# Altium schematic symbol library usb2ttl.SchLib: 9 symbols
Pins are listed as number, name and electrical type; pins without a type are passive.

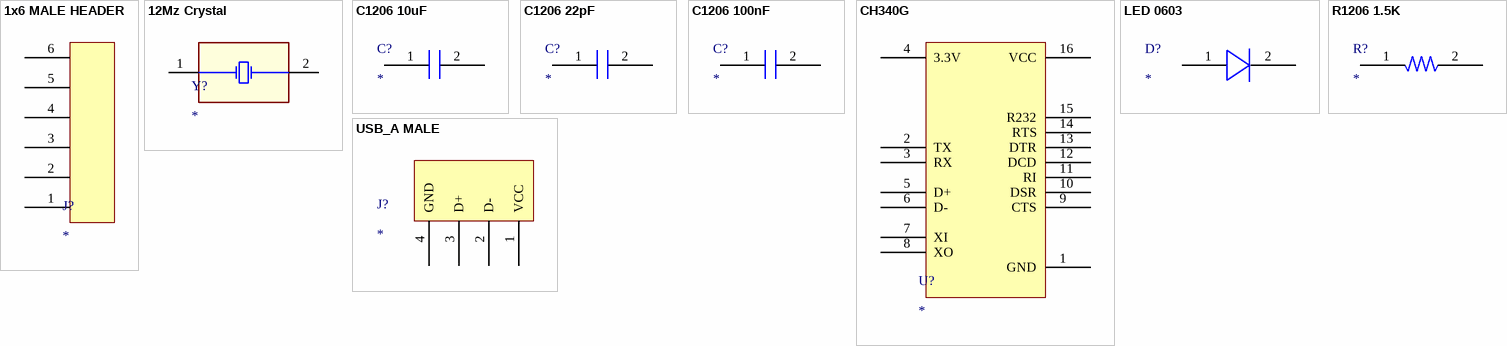
[diagram p0: symbols 1x6 MALE HEADER to USB_A MALE]

## 1x6 MALE HEADER
designator J?
footprint 1x6 MALE HEADER
pins: 1, 2, 3, 4, 5, 6

## 12Mz Crystal
designator Y?
footprint 12MHz Crystal
pins: 1 (power) "Regulator Input Supply. Bypass IN to GND with a 1 uF or greater capacitor.", 2 (power) "Ground."

## C1206 10uF
designator C?
footprint C1206
pins: 1, 2

## C1206 22pF
designator C?
footprint C1206
pins: 1, 2

## C1206 100nF
designator C?
footprint C1206
pins: 1, 2

## CH340G
designator U?
footprint CH340G
pins: 1 GND, 2 TX, 3 RX, 4 3.3V, 5 D+, 6 D-, 7 XI, 8 XO, 9 CTS, 10 DSR, 11 RI, 12 DCD, 13 DTR, 14 RTS, 15 R232, 16 VCC

## LED 0603
designator D?
footprint LED 0603
pins: 1, 2

## R1206 1.5K
designator R?
footprint R1206
pins: 1, 2

## USB_A MALE
designator J?
footprint USBA_MALE
pins: 1 VCC, 2 D-, 3 D+, 4 GND